# Altium footprint library ZPWL.PcbLib: 168 footprints (part 4 of 11)
Each footprint in its own frame and in the unit in brackets; x right, y up, seen from the top. Pads: shape width x height; smd on the part's side, far side on the other; paste and mask are expansions set on the pad; w line width, h text height; cw(c..) or ccw(c..) is an arc to the next point about the centre after c.
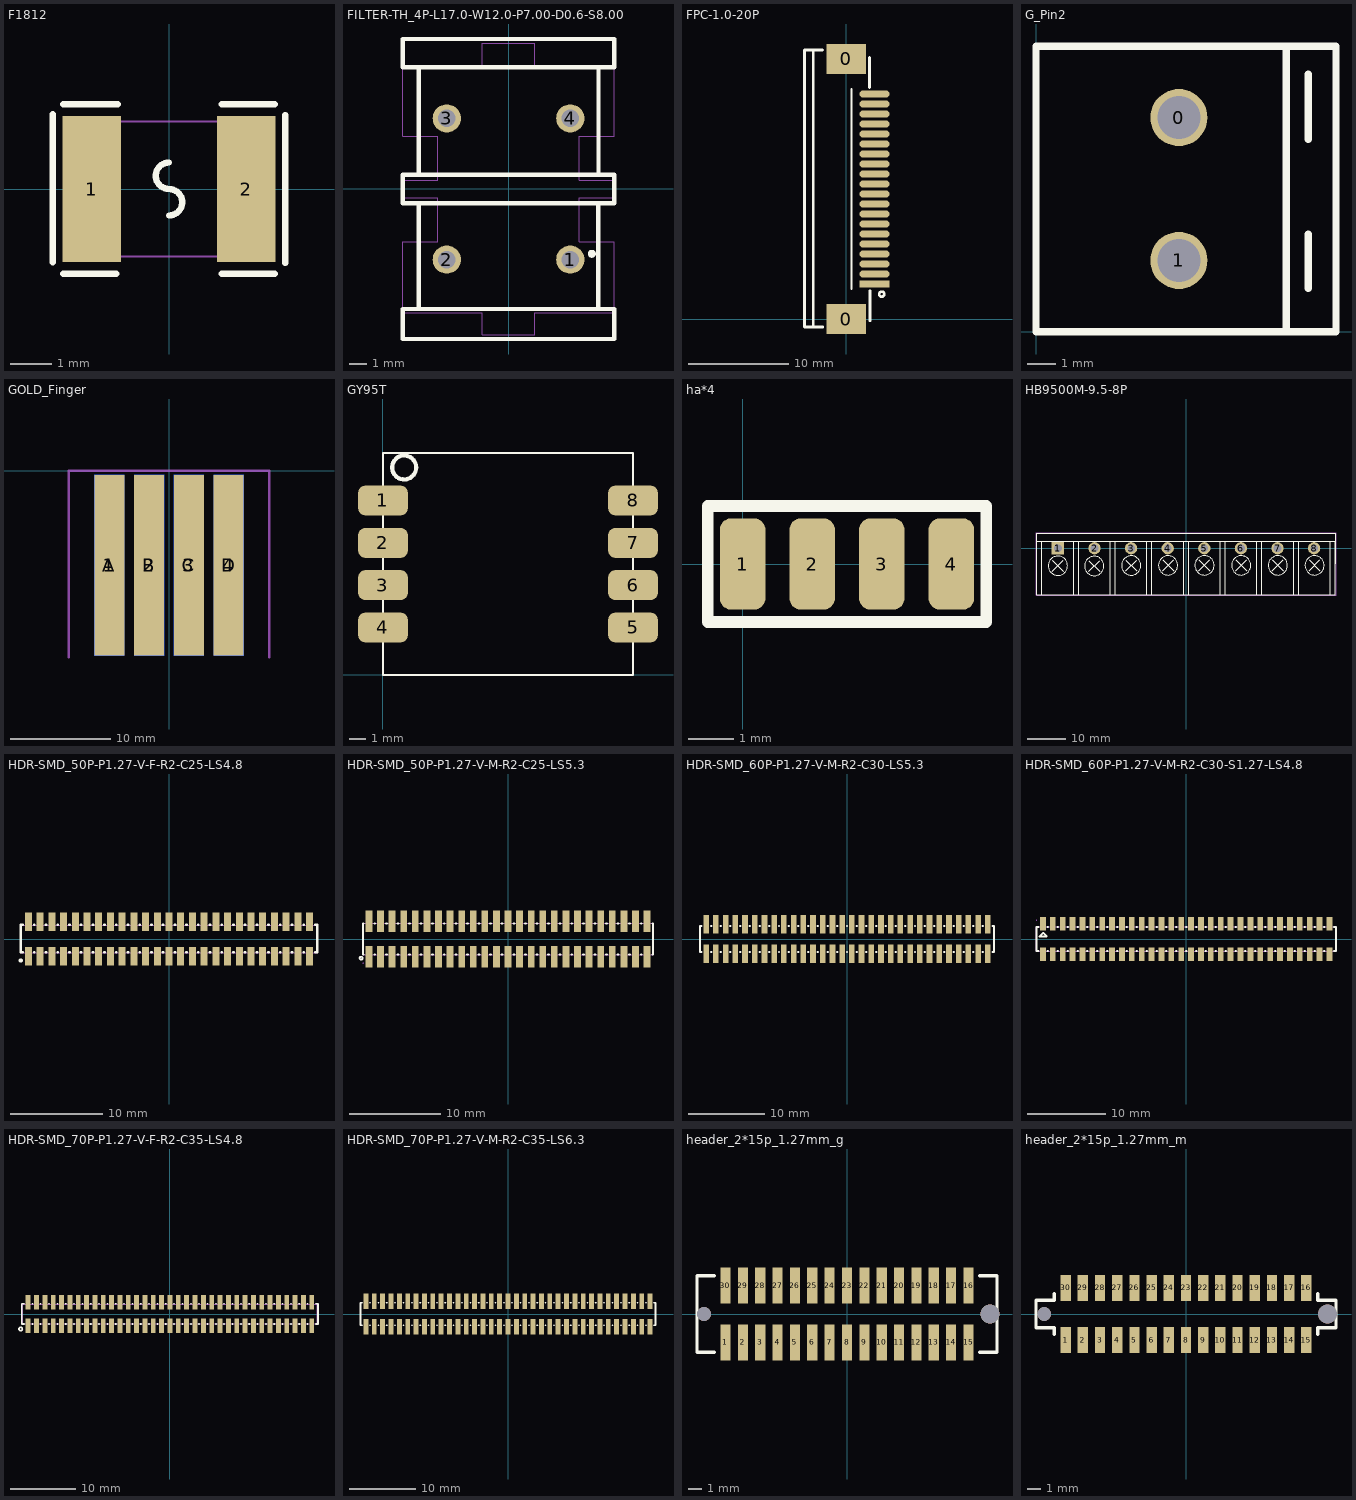
[diagram p3: the footprints below, top view; thin cyan lines are the x and y axes]

## F1812 [mm]
pads (2):
  rect 1.407x3.499 smd paste-100 mask+0.051: 1(-1.853,0) 2(1.853,0)
Top Overlay:
  lines w0.152: -2.794,-1.758 -2.794,1.798 ; -2.54,-2.032 -1.27,-2.032 ; -2.54,2.032 -1.235,2.032 ; 0,-0.635 ccw(c0,-0.318) 0,0 cw(c0,0.318) 0,0.635 ; 1.27,-2.032 2.54,-2.032 ; 1.27,2.032 2.54,2.032 ; 2.794,-1.778 2.794,1.778
Top Paste:
  region: -1.15,-1.65 -1.15,-0.695 -1.25,-0.595 -1.528,-0.595 -1.628,-0.495 -1.628,0.495 -1.528,0.595 -1.25,0.595 -1.15,0.695 -1.15,1.65 -1.25,1.75 -2.457,1.75 -2.557,1.65 -2.557,-1.65 -2.457,-1.75 -1.25,-1.75
  region: 1.15,-1.65 1.15,-0.695 1.25,-0.595 1.528,-0.595 1.628,-0.495 1.628,0.495 1.528,0.595 1.25,0.595 1.15,0.695 1.15,1.65 1.25,1.75 2.457,1.75 2.557,1.65 2.557,-1.65 2.457,-1.75 1.25,-1.75
Mechanical 6:
  lines w0.051: -2.275,-1.62 2.275,-1.62 2.275,1.62 -2.275,1.62 -2.275,-1.62
Mechanical 8:
  region: -2.215,-1.62 -2.215,-1.645 -2.25,-1.68 -2.3,-1.68 -2.335,-1.645 -2.335,-1.62 -2.335,-1.595 -2.3,-1.56 -2.25,-1.56 -2.215,-1.595 -2.215,-1.62
Mechanical 9:
  region: 2.275,-1.62 2.275,1.62 1.525,1.62 1.525,-1.62
  region: -2.275,-1.62 -2.275,1.62 -1.525,1.62 -1.525,-1.62
3D body "自恢复保险丝.STEP": height 1.14, standoff 0.1, extent -2.25,-1.524 2.25,1.676

## FILTER-TH_4P-L17.0-W12.0-P7.00-D0.6-S8.00 [mm]
pads (4):
  round 1.6 hole 1: 1(3.5,-4) 2(-3.5,-4) 3(-3.5,4) 4(3.5,4)
Top Overlay:
  circle w0.254: c4.72,-3.67 r0.1
  lines w0.254: -5.1,-6.8 -5.1,-0.8 ; -5.1,0.9 -5.1,6.9 ; 5.098,-6.798 5.098,-0.798 ; 5.098,0.901 5.098,6.901 ; 6,8.4 6,6.9 -6,6.9 -6,8.5 6,8.5 ; -6,-8.5 6,-8.5 6,-6.8 -6,-6.8 -6,-7.2 -6,-8.5 ; -6,-0.8 6,-0.8 6,0.8 -6,0.8 -6,-0.8
Mechanical 15:
  region: -5.94,-8.26 -5.94,-8.235 -5.975,-8.2 -6.025,-8.2 -6.06,-8.235 -6.06,-8.26 -6.06,-8.285 -6.025,-8.32 -5.975,-8.32 -5.94,-8.285 -5.94,-8.26
  region: -3.2,-4 -3.2,-3.941 -3.246,-3.831 -3.33,-3.746 -3.44,-3.7 -3.56,-3.7 -3.67,-3.746 -3.755,-3.831 -3.8,-3.941 -3.8,-4 -3.8,-4.06 -3.755,-4.171 -3.67,-4.255 -3.56,-4.301 -3.44,-4.301 -3.33,-4.255 -3.246,-4.171 -3.2,-4.06 -3.2,-4
  region: -3.2,4 -3.2,4.06 -3.246,4.17 -3.33,4.255 -3.44,4.301 -3.56,4.301 -3.67,4.255 -3.755,4.17 -3.8,4.06 -3.8,4 -3.8,3.941 -3.755,3.83 -3.67,3.746 -3.56,3.7 -3.44,3.7 -3.33,3.746 -3.246,3.83 -3.2,3.941 -3.2,4
  region: 3.8,4 3.8,4.06 3.755,4.17 3.67,4.255 3.56,4.301 3.44,4.301 3.33,4.255 3.246,4.17 3.2,4.06 3.2,4 3.2,3.941 3.246,3.83 3.33,3.746 3.44,3.7 3.56,3.7 3.67,3.746 3.755,3.83 3.8,3.941 3.8,4
  region: 3.8,-4 3.8,-3.941 3.755,-3.831 3.67,-3.746 3.56,-3.7 3.44,-3.7 3.33,-3.746 3.246,-3.831 3.2,-3.941 3.2,-4 3.2,-4.06 3.246,-4.171 3.33,-4.255 3.44,-4.301 3.56,-4.301 3.67,-4.255 3.755,-4.171 3.8,-4.06 3.8,-4
  lines w0.051: -6,-7 -1.5,-7 -1.5,-8.25 -1.5,-8.26 -1.49,-8.25 1.5,-8.25 1.5,-7 6,-7 6,-3 4,-3 4,-0.66 4,-0.5 6,-0.5 6,0.5 4,0.5 4,2.84 4,2.85 4,3 6,3 6,7 1.5,7 1.5,8.25 -1.5,8.25 -1.5,7 -6,7 -6,3 -4,3 -4,0.5 -6,0.5 -6,-0.5 -4,-0.5 -4,-3 -6,-3 -6,-7

## FPC-1.0-20P [mm]
pads (22):
  rect 4x3 smd: 0(0,0) 0(0,26)
  rect 3x0.7 smd: 1(2.825,3.5)
  oval 3x0.7 smd: 2(2.825,4.5) 3(2.825,5.5) 4(2.825,6.5) 5(2.825,7.5) 6(2.825,8.5) 7(2.825,9.5) 8(2.825,10.5) 9(2.825,11.5) 10(2.825,12.5) 11(2.825,13.5) 12(2.825,14.5) 13(2.825,15.5) 14(2.825,16.5) 15(2.825,17.5) 16(2.825,18.5) 17(2.825,19.5) 18(2.825,20.5) 19(2.825,21.5) 20(2.825,22.5)
Top Overlay:
  circle w0.254: c3.546,2.484 r0.254
  lines w0.2: 0.54,3 0.54,23
  lines w0.254: -3.3,-0.8 -3.3,26.85 ; -2.375,26.9 -4.175,26.9 -4.175,-0.8 -2.35,-0.8 ; 2.325,23.15 2.325,26.15 ; 2.375,-0.175 2.375,2.825
3D body "FPC-1.0-20P.step": height 2.8, standoff 0, extent -4.048,0.475 3.252,25.475

## G_Pin2 [mm]
height 18
pads (2):
  round 2 hole 1.5: 0(5,7.5) 1(5,2.5)
Top Overlay:
  lines w0.254: 8.763,0.127 8.763,10 ; 9.525,1.524 9.525,3.429 ; 9.525,6.731 9.525,9.017 ; 0,0 0,10 10.5,10 10.5,0 0,0

## GOLD_Finger [mm]
pads (8):
  rect 3x18 smd far side: 1(-5.94,-9.398) 2(-1.98,-9.398) 3(1.98,-9.398) 4(5.94,-9.398)
  rect 3x18 smd: A(-5.94,-9.398) B(-1.98,-9.398) C(1.98,-9.398) D(5.94,-9.398)
Mechanical 1:
  lines w0.254: -10,-18.542 -10,0 10,0 10,-18.542

## GY95T [mm] "三轴陀螺仪"
pads (8):
  rrect50% 3x1.8 smd: 1(0,10.465) 2(0,7.925) 3(0,5.385) 4(0,2.845) 5(15,2.845) 6(15,5.385) 7(15,7.925) 8(15,10.465)
Top Overlay:
  circle w0.254: c1.27,12.446 r0.718
  lines w0.127: 0,0 15,0 15,13.31 0,13.31 0,0

## ha*4 [mm] "STLINK_PAD"
pads (4):
  rrect50% 1x2 smd: 1(0,0) 2(1.524,0) 3(3.048,0) 4(4.572,0)
Top Overlay:
  lines w0.254: -0.762,-1.27 5.334,-1.27 5.334,1.27 -0.762,1.27 -0.762,-1.27

## HB9500M-9.5-8P [mm]
pads (8):
  rect 3.21x3.2 hole 2: 1(-33.25,0)
  round 3.2 hole 2: 2(-23.75,0) 3(-14.25,0) 4(-4.75,0) 5(4.75,0) 6(14.25,0) 7(23.75,0) 8(33.25,0)
Top Overlay:
  circle w0.254: c33.359,-4.437 r2.5
  circle w0.254: c23.834,-4.437 r2.5
  circle w0.254: c14.309,-4.437 r2.5
  circle w0.254: c4.784,-4.437 r2.5
  circle w0.254: c-33.25,-4.52 r2.5
  circle w0.254: c-23.82,-4.59 r2.5
  circle w0.254: c-14.22,-4.46 r2.5
  circle w0.254: c-4.66,-4.44 r2.5
  lines w0.254: -38.75,1.855 38.75,1.855 ; -37.45,-12.051 -37.45,1.749 ; -34.664,-5.934 -31.836,-3.106 ; -34.664,-3.106 -31.836,-5.934 ; -29.15,-12.051 -29.15,1.749 ; -27.85,-12.051 -27.85,1.749 ; -25.234,-6.004 -22.406,-3.176 ; -25.234,-3.176 -22.406,-6.004 ; -19.65,-12.051 -19.65,1.749 ; -18.35,-12.051 -18.35,1.749 ; -15.634,-5.874 -12.806,-3.046 ; -15.634,-3.046 -12.806,-5.874 ; -10.15,-12.051 -10.15,1.749 ; -8.85,-12.051 -8.85,1.749 ; -6.074,-5.854 -3.246,-3.026 ; -6.074,-3.026 -3.246,-5.854 ; -0.55,-12.051 -0.55,1.749 ; 0.655,-12.027 0.655,1.773 ; 3.37,-5.851 6.199,-3.022 ; 3.37,-3.022 6.199,-5.851 ; 8.855,-12.027 8.855,1.773 ; 8.88,-12.027 8.88,1.773 ; 10.154,-12.027 10.154,1.773 ; 10.18,-12.027 10.18,1.773 ; 12.895,-5.851 15.724,-3.022 ; 12.895,-3.022 15.724,-5.851 ; 18.38,-12.027 18.38,1.773 ; 18.405,-12.027 18.405,1.773 ; 19.679,-12.027 19.679,1.773 ; 19.705,-12.027 19.705,1.773 ; 22.42,-5.851 25.249,-3.022 ; 22.42,-3.022 25.249,-5.851 ; 27.905,-12.027 27.905,1.773 ; 27.93,-12.027 27.93,1.773 ; 29.204,-12.027 29.204,1.773 ; 29.23,-12.027 29.23,1.773 ; 31.945,-5.851 34.774,-3.022 ; 31.945,-3.022 34.774,-5.851 ; 37.45,-12.051 37.45,1.749 ; 37.475,-12.051 37.475,1.749 ; 38.75,3.949 -38.75,3.95 -38.75,-12.051 38.75,-12.051 38.807,3.914 ; 38.775,-12.051 38.775,1.749
Mechanical 15:
  drawing of 13 lines, arcs and shapes, not listed
3D body "HB9500M-9.5-8P.STEP": height 16.51, standoff -3.19, extent -38.664,-12.058 38.837,3.942

## HDR-SMD_50P-P1.27-V-F-R2-C25-LS4.8 [mm]
pads (50):
  rect 0.76x2.05 smd paste+0 mask+0.05: 1(-15.24,-1.875) 2(-15.24,1.875) 3(-13.97,-1.875) 4(-13.97,1.875) 5(-12.7,-1.875) 6(-12.7,1.875) 7(-11.43,-1.875) 8(-11.43,1.875) 9(-10.16,-1.875) 10(-10.16,1.875) 11(-8.89,-1.875) 12(-8.89,1.875) 13(-7.62,-1.875) 14(-7.62,1.875) 15(-6.35,-1.875) 16(-6.35,1.875) 17(-5.08,-1.875) 18(-5.08,1.875) 19(-3.81,-1.875) 20(-3.81,1.875) 21(-2.54,-1.875) 22(-2.54,1.875) 23(-1.27,-1.875) 24(-1.27,1.875) 25(0,-1.875) 26(0,1.875) 27(1.27,-1.875) 28(1.27,1.875) 29(2.54,-1.875) 30(2.54,1.875) 31(3.81,-1.875) 32(3.81,1.875) 33(5.08,-1.875) 34(5.08,1.875) 35(6.35,-1.875) 36(6.35,1.875) 37(7.62,-1.875) 38(7.62,1.875) 39(8.89,-1.875) 40(8.89,1.875) 41(10.16,-1.875) 42(10.16,1.875) 43(11.43,-1.875) 44(11.43,1.875) 45(12.7,-1.875) 46(12.7,1.875) 47(13.97,-1.875) 48(13.97,1.875) 49(15.24,-1.875) 50(15.24,1.875)
Top Overlay:
  circle w0.254: c-16.075,-2.335 r0.105
  lines w0.254: -16.075,-1.455 -16.075,1.545 ; -16.025,-1.455 -15.846,-1.455 ; -16.025,1.545 -15.846,1.545 ; -14.634,-1.455 -14.576,-1.455 ; -14.634,1.545 -14.576,1.545 ; -13.364,-1.455 -13.306,-1.455 ; -13.364,1.545 -13.306,1.545 ; -12.094,-1.455 -12.036,-1.455 ; -12.094,1.545 -12.036,1.545 ; -10.824,-1.455 -10.766,-1.455 ; -10.824,1.545 -10.766,1.545 ; -9.554,-1.455 -9.496,-1.455 ; -9.554,1.545 -9.496,1.545 ; -8.284,-1.455 -8.226,-1.455 ; -8.284,1.545 -8.226,1.545 ; -7.014,-1.455 -6.956,-1.455 ; -7.014,1.545 -6.956,1.545 ; -5.744,-1.455 -5.686,-1.455 ; -5.744,1.545 -5.686,1.545 ; -4.474,-1.455 -4.416,-1.455 ; -4.474,1.545 -4.416,1.545 ; -3.204,-1.455 -3.146,-1.455 ; -3.204,1.545 -3.146,1.545 ; -1.934,-1.455 -1.876,-1.455 ; -1.934,1.545 -1.876,1.545 ; -0.664,-1.455 -0.606,-1.455 ; -0.664,1.545 -0.606,1.545 ; 0.606,-1.455 0.664,-1.455 ; 0.606,1.545 0.664,1.545 ; 1.876,-1.455 1.934,-1.455 ; 1.876,1.545 1.934,1.545 ; 3.146,-1.455 3.204,-1.455 ; 3.146,1.545 3.204,1.545 ; 4.416,-1.455 4.474,-1.455 ; 4.416,1.545 4.474,1.545 ; 5.686,-1.455 5.744,-1.455 ; 5.686,1.545 5.744,1.545 ; 6.956,-1.455 7.014,-1.455 ; 6.956,1.545 7.014,1.545 ; 8.226,-1.455 8.284,-1.455 ; 8.226,1.545 8.284,1.545 ; 9.496,-1.455 9.554,-1.455 ; 9.496,1.545 9.554,1.545 ; 10.766,-1.455 10.824,-1.455 ; 10.766,1.545 10.824,1.545 ; 12.036,-1.455 12.094,-1.455 ; 12.036,1.545 12.094,1.545 ; 13.306,-1.455 13.364,-1.455 ; 13.306,1.545 13.364,1.545 ; 14.576,-1.455 14.634,-1.455 ; 14.576,1.545 14.634,1.545 ; 15.846,-1.455 15.904,-1.455 ; 15.846,1.545 15.904,1.545 ; 16.075,-1.455 16.075,1.545
Mechanical 15:
  drawing of 55 lines, arcs and shapes, not listed

## HDR-SMD_50P-P1.27-V-M-R2-C25-LS5.3 [mm]
pads (50):
  rect 0.74x2.4 smd paste+0 mask+0.05: 1(-15.24,-1.95) 2(-15.24,1.95) 3(-13.97,-1.95) 4(-13.97,1.95) 5(-12.7,-1.95) 6(-12.7,1.95) 7(-11.43,-1.95) 8(-11.43,1.95) 9(-10.16,-1.95) 10(-10.16,1.95) 11(-8.89,-1.95) 12(-8.89,1.95) 13(-7.62,-1.95) 14(-7.62,1.95) 15(-6.35,-1.95) 16(-6.35,1.95) 17(-5.08,-1.95) 18(-5.08,1.95) 19(-3.81,-1.95) 20(-3.81,1.95) 21(-2.54,-1.95) 22(-2.54,1.95) 23(-1.27,-1.95) 24(-1.27,1.95) 25(0,-1.95) 26(0,1.95) 27(1.27,-1.95) 28(1.27,1.95) 29(2.54,-1.95) 30(2.54,1.95) 31(3.81,-1.95) 32(3.81,1.95) 33(5.08,-1.95) 34(5.08,1.95) 35(6.35,-1.95) 36(6.35,1.95) 37(7.62,-1.95) 38(7.62,1.95) 39(8.89,-1.95) 40(8.89,1.95) 41(10.16,-1.95) 42(10.16,1.95) 43(11.43,-1.95) 44(11.43,1.95) 45(12.7,-1.95) 46(12.7,1.95) 47(13.97,-1.95) 48(13.97,1.95) 49(15.24,-1.95) 50(15.24,1.95)
Top Overlay:
  circle w0.2: c-16.1,-2.1 r0.16
  lines w0.2: -15.814,-1.7 -15.9,-1.7 -15.9,1.7 -15.814,1.7 ; -14.666,-1.7 -14.544,-1.7 ; -14.666,1.7 -14.544,1.7 ; -13.396,-1.7 -13.274,-1.7 ; -13.396,1.7 -13.274,1.7 ; -12.126,-1.7 -12.004,-1.7 ; -12.126,1.7 -12.004,1.7 ; -10.856,-1.7 -10.734,-1.7 ; -10.856,1.7 -10.734,1.7 ; -9.586,-1.7 -9.464,-1.7 ; -9.586,1.7 -9.464,1.7 ; -8.316,-1.7 -8.194,-1.7 ; -8.316,1.7 -8.194,1.7 ; -7.046,-1.7 -6.924,-1.7 ; -7.046,1.7 -6.924,1.7 ; -5.776,-1.7 -5.654,-1.7 ; -5.776,1.7 -5.654,1.7 ; -4.506,-1.7 -4.384,-1.7 ; -4.506,1.7 -4.384,1.7 ; -3.236,-1.7 -3.114,-1.7 ; -3.236,1.7 -3.114,1.7 ; -1.966,-1.7 -1.844,-1.7 ; -1.966,1.7 -1.844,1.7 ; -0.696,-1.7 -0.574,-1.7 ; -0.696,1.7 -0.574,1.7 ; 0.574,-1.7 0.696,-1.7 ; 0.574,1.7 0.696,1.7 ; 1.844,-1.7 1.966,-1.7 ; 1.844,1.7 1.966,1.7 ; 3.114,-1.7 3.236,-1.7 ; 3.114,1.7 3.236,1.7 ; 4.384,-1.7 4.506,-1.7 ; 4.384,1.7 4.506,1.7 ; 5.654,-1.7 5.776,-1.7 ; 5.654,1.7 5.776,1.7 ; 6.924,-1.7 7.046,-1.7 ; 6.924,1.7 7.046,1.7 ; 8.194,-1.7 8.316,-1.7 ; 8.194,1.7 8.316,1.7 ; 9.464,-1.7 9.586,-1.7 ; 9.464,1.7 9.586,1.7 ; 10.734,-1.7 10.856,-1.7 ; 10.734,1.7 10.856,1.7 ; 12.004,-1.7 12.126,-1.7 ; 12.004,1.7 12.126,1.7 ; 13.274,-1.7 13.396,-1.7 ; 13.274,1.7 13.396,1.7 ; 14.544,-1.7 14.666,-1.7 ; 14.544,1.7 14.666,1.7 ; 15.814,-1.7 15.9,-1.7 15.9,1.7 15.814,1.7
Mechanical 15:
  drawing of 55 lines, arcs and shapes, not listed

## HDR-SMD_60P-P1.27-V-M-R2-C30-LS5.3 [mm]
pads (60):
  rect 0.74x2.4 smd paste+0 mask+0.05: 1(-18.415,-1.95) 2(-18.415,1.95) 3(-17.145,-1.95) 4(-17.145,1.95) 5(-15.875,-1.95) 6(-15.875,1.95) 7(-14.605,-1.95) 8(-14.605,1.95) 9(-13.335,-1.95) 10(-13.335,1.95) 11(-12.065,-1.95) 12(-12.065,1.95) 13(-10.795,-1.95) 14(-10.795,1.95) 15(-9.525,-1.95) 16(-9.525,1.95) 17(-8.255,-1.95) 18(-8.255,1.95) 19(-6.985,-1.95) 20(-6.985,1.95) 21(-5.715,-1.95) 22(-5.715,1.95) 23(-4.445,-1.95) 24(-4.445,1.95) 25(-3.175,-1.95) 26(-3.175,1.95) 27(-1.905,-1.95) 28(-1.905,1.95) 29(-0.635,-1.95) 30(-0.635,1.95) 31(0.635,-1.95) 32(0.635,1.95) 33(1.905,-1.95) 34(1.905,1.95) 35(3.175,-1.95) 36(3.175,1.95) 37(4.445,-1.95) 38(4.445,1.95) 39(5.715,-1.95) 40(5.715,1.95) 41(6.985,-1.95) 42(6.985,1.95) 43(8.255,-1.95) 44(8.255,1.95) 45(9.525,-1.95) 46(9.525,1.95) 47(10.795,-1.95) 48(10.795,1.95) 49(12.065,-1.95) 50(12.065,1.95) 51(13.335,-1.95) 52(13.335,1.95) 53(14.605,-1.95) 54(14.605,1.95) 55(15.875,-1.95) 56(15.875,1.95) 57(17.145,-1.95) 58(17.145,1.95) 59(18.415,-1.95) 60(18.415,1.95)
Top Overlay:
  lines w0.254: -19.016,-1.7 -19.225,-1.7 -19.225,1.7 -19.016,1.7 ; -17.814,-1.7 -17.746,-1.7 ; -17.814,1.7 -17.746,1.7 ; -16.544,-1.7 -16.476,-1.7 ; -16.544,1.7 -16.476,1.7 ; -15.274,-1.7 -15.206,-1.7 ; -15.274,1.7 -15.206,1.7 ; -14.004,-1.7 -13.936,-1.7 ; -14.004,1.7 -13.936,1.7 ; -12.734,-1.7 -12.666,-1.7 ; -12.734,1.7 -12.666,1.7 ; -11.464,-1.7 -11.396,-1.7 ; -11.464,1.7 -11.396,1.7 ; -10.194,-1.7 -10.126,-1.7 ; -10.194,1.7 -10.126,1.7 ; -8.924,-1.7 -8.856,-1.7 ; -8.924,1.7 -8.856,1.7 ; -7.654,-1.7 -7.586,-1.7 ; -7.654,1.7 -7.586,1.7 ; -6.384,-1.7 -6.316,-1.7 ; -6.384,1.7 -6.316,1.7 ; -5.114,-1.7 -5.046,-1.7 ; -5.114,1.7 -5.046,1.7 ; -3.844,-1.7 -3.776,-1.7 ; -3.844,1.7 -3.776,1.7 ; -2.574,-1.7 -2.506,-1.7 ; -2.574,1.7 -2.506,1.7 ; -1.304,-1.7 -1.236,-1.7 ; -1.304,1.7 -1.236,1.7 ; -0.034,-1.7 0.034,-1.7 ; -0.034,1.7 0.034,1.7 ; 1.236,-1.7 1.304,-1.7 ; 1.236,1.7 1.304,1.7 ; 2.506,-1.7 2.574,-1.7 ; 2.506,1.7 2.574,1.7 ; 3.776,-1.7 3.844,-1.7 ; 3.776,1.7 3.844,1.7 ; 5.046,-1.7 5.114,-1.7 ; 5.046,1.7 5.114,1.7 ; 6.316,-1.7 6.384,-1.7 ; 6.316,1.7 6.384,1.7 ; 7.586,-1.7 7.654,-1.7 ; 7.586,1.7 7.654,1.7 ; 8.856,-1.7 8.924,-1.7 ; 8.856,1.7 8.924,1.7 ; 10.126,-1.7 10.194,-1.7 ; 10.126,1.7 10.194,1.7 ; 11.396,-1.7 11.464,-1.7 ; 11.396,1.7 11.464,1.7 ; 12.666,-1.7 12.734,-1.7 ; 12.666,1.7 12.734,1.7 ; 13.936,-1.7 14.004,-1.7 ; 13.936,1.7 14.004,1.7 ; 15.206,-1.7 15.274,-1.7 ; 15.206,1.7 15.274,1.7 ; 16.476,-1.7 16.544,-1.7 ; 16.476,1.7 16.544,1.7 ; 17.746,-1.7 17.814,-1.7 ; 17.746,1.7 17.814,1.7 ; 19.016,-1.7 19.225,-1.7 19.225,1.7 19.016,1.7

## HDR-SMD_60P-P1.27-V-M-R2-C30-S1.27-LS4.8 [mm]
pads (60):
  rect 0.74x1.7 smd paste+0 mask+0.05: 1(-18.415,1.95) 2(-18.415,-1.95) 3(-17.145,1.95) 4(-17.145,-1.95) 5(-15.875,1.95) 6(-15.875,-1.95) 7(-14.605,1.95) 8(-14.605,-1.95) 9(-13.335,1.95) 10(-13.335,-1.95) 11(-12.065,1.95) 12(-12.065,-1.95) 13(-10.795,1.95) 14(-10.795,-1.95) 15(-9.525,1.95) 16(-9.525,-1.95) 17(-8.255,1.95) 18(-8.255,-1.95) 19(-6.985,1.95) 20(-6.985,-1.95) 21(-5.715,1.95) 22(-5.715,-1.95) 23(-4.445,1.95) 24(-4.445,-1.95) 25(-3.175,1.95) 26(-3.175,-1.95) 27(-1.905,1.95) 28(-1.905,-1.95) 29(-0.635,1.95) 30(-0.635,-1.95) 31(0.635,1.95) 32(0.635,-1.95) 33(1.905,1.95) 34(1.905,-1.95) 35(3.175,1.95) 36(3.175,-1.95) 37(4.445,1.95) 38(4.445,-1.95) 39(5.715,1.95) 40(5.715,-1.95) 41(6.985,1.95) 42(6.985,-1.95) 43(8.255,1.95) 44(8.255,-1.95) 45(9.525,1.95) 46(9.525,-1.95) 47(10.795,1.95) 48(10.795,-1.95) 49(12.065,1.95) 50(12.065,-1.95) 51(13.335,1.95) 52(13.335,-1.95) 53(14.605,1.95) 54(14.605,-1.95) 55(15.875,1.95) 56(15.875,-1.95) 57(17.145,1.95) 58(17.145,-1.95) 59(18.415,1.95) 60(18.415,-1.95)
Top Overlay:
  lines w0.254: -19.016,-1.55 -19.25,-1.55 -19.25,1.55 -19.016,1.55 ; -17.814,-1.55 -17.746,-1.55 ; -17.814,1.55 -17.746,1.55 ; -16.544,-1.55 -16.476,-1.55 ; -16.544,1.55 -16.476,1.55 ; -15.274,-1.55 -15.206,-1.55 ; -15.274,1.55 -15.206,1.55 ; -14.004,-1.55 -13.936,-1.55 ; -14.004,1.55 -13.936,1.55 ; -12.734,-1.55 -12.666,-1.55 ; -12.734,1.55 -12.666,1.55 ; -11.464,-1.55 -11.396,-1.55 ; -11.464,1.55 -11.396,1.55 ; -10.194,-1.55 -10.126,-1.55 ; -10.194,1.55 -10.126,1.55 ; -8.924,-1.55 -8.856,-1.55 ; -8.924,1.55 -8.856,1.55 ; -7.654,-1.55 -7.586,-1.55 ; -7.654,1.55 -7.586,1.55 ; -6.384,-1.55 -6.316,-1.55 ; -6.384,1.55 -6.316,1.55 ; -5.114,-1.55 -5.046,-1.55 ; -5.114,1.55 -5.046,1.55 ; -3.844,-1.55 -3.776,-1.55 ; -3.844,1.55 -3.776,1.55 ; -2.574,-1.55 -2.506,-1.55 ; -2.574,1.55 -2.506,1.55 ; -1.304,-1.55 -1.236,-1.55 ; -1.304,1.55 -1.236,1.55 ; -0.034,-1.55 0.034,-1.55 ; -0.034,1.55 0.034,1.55 ; 1.236,-1.55 1.304,-1.55 ; 1.236,1.55 1.304,1.55 ; 2.506,-1.55 2.574,-1.55 ; 2.506,1.55 2.574,1.55 ; 3.776,-1.55 3.844,-1.55 ; 3.776,1.55 3.844,1.55 ; 5.046,-1.55 5.114,-1.55 ; 5.046,1.55 5.114,1.55 ; 6.316,-1.55 6.384,-1.55 ; 6.316,1.55 6.384,1.55 ; 7.586,-1.55 7.654,-1.55 ; 7.586,1.55 7.654,1.55 ; 8.856,-1.55 8.924,-1.55 ; 8.856,1.55 8.924,1.55 ; 10.126,-1.55 10.194,-1.55 ; 10.126,1.55 10.194,1.55 ; 11.396,-1.55 11.464,-1.55 ; 11.396,1.55 11.464,1.55 ; 12.666,-1.55 12.734,-1.55 ; 12.666,1.55 12.734,1.55 ; 13.936,-1.55 14.004,-1.55 ; 13.936,1.55 14.004,1.55 ; 15.206,-1.55 15.274,-1.55 ; 15.206,1.55 15.274,1.55 ; 16.476,-1.55 16.544,-1.55 ; 16.476,1.55 16.544,1.55 ; 17.746,-1.55 17.814,-1.55 ; 17.746,1.55 17.814,1.55 ; 19.016,-1.55 19.25,-1.55 19.25,1.55 ; 19.016,1.55 19.2,1.55 ; -18.4,0.8 -17.95,0.35 -18.85,0.35 -18.4,0.8 ; -18.4,0.8 -18.4,0.8
Mechanical 15:
  drawing of 65 lines, arcs and shapes, not listed

## HDR-SMD_70P-P1.27-V-F-R2-C35-LS4.8 [mm]
pads (70):
  rect 0.74x2.2 smd: 1(-21.59,-1.8) 2(-21.59,1.8) 3(-20.32,-1.8) 4(-20.32,1.8) 5(-19.05,-1.8) 6(-19.05,1.8) 7(-17.78,-1.8) 8(-17.78,1.8) 9(-16.51,-1.8) 10(-16.51,1.8) 11(-15.24,-1.8) 12(-15.24,1.8) 13(-13.97,-1.8) 14(-13.97,1.8) 15(-12.7,-1.8) 16(-12.7,1.8) 17(-11.43,-1.8) 18(-11.43,1.8) 19(-10.16,-1.8) 20(-10.16,1.8) 21(-8.89,-1.8) 22(-8.89,1.8) 23(-7.62,-1.8) 24(-7.62,1.8) 25(-6.35,-1.8) 26(-6.35,1.8) 27(-5.08,-1.8) 28(-5.08,1.8) 29(-3.81,-1.8) 30(-3.81,1.8)
  rect 0.74x2.2 smd paste+0 mask+0.05: 31(-2.54,-1.8) 32(-2.54,1.8) 33(-1.27,-1.8) 34(-1.27,1.8) 35(0,-1.8) 36(0,1.8) 37(1.27,-1.8) 38(1.27,1.8) 39(2.54,-1.8) 40(2.54,1.8) 41(3.81,-1.8) 42(3.81,1.8) 43(5.08,-1.8) 44(5.08,1.8) 45(6.35,-1.8) 46(6.35,1.8) 47(7.62,-1.8) 48(7.62,1.8) 49(8.89,-1.8) 50(8.89,1.8) 51(10.16,-1.8) 52(10.16,1.8) 53(11.43,-1.8) 54(11.43,1.8) 55(12.7,-1.8) 56(12.7,1.8) 57(13.97,-1.8) 58(13.97,1.8) 59(15.24,-1.8) 60(15.24,1.8) 61(16.51,-1.8) 62(16.51,1.8) 63(17.78,-1.8) 64(17.78,1.8) 65(19.05,-1.8) 66(19.05,1.8) 67(20.32,-1.8) 68(20.32,1.8) 69(21.59,-1.8) 70(21.59,1.8)
Top Overlay:
  circle w0.254: c-22.733,-2.286 r0.254
  lines w0.254: -22.55,-1.524 -22.225,-1.524 -22.191,-1.524 ; -22.55,-1.5 -22.55,1.5 ; -22.55,1.55 -22.2,1.55 -22.191,1.55 ; -20.989,-1.524 -20.921,-1.524 ; -20.989,1.55 -20.921,1.55 ; -19.719,-1.524 -19.651,-1.524 ; -19.719,1.55 -19.651,1.55 ; -18.449,-1.524 -18.381,-1.524 ; -18.449,1.55 -18.381,1.55 ; -17.179,-1.524 -17.111,-1.524 ; -17.179,1.55 -17.111,1.55 ; -15.909,-1.524 -15.841,-1.524 ; -15.909,1.55 -15.841,1.55 ; -14.639,-1.524 -14.571,-1.524 ; -14.639,1.55 -14.571,1.55 ; -13.369,-1.524 -13.301,-1.524 ; -13.369,1.55 -13.301,1.55 ; -12.099,-1.524 -12.031,-1.524 ; -12.099,1.55 -12.031,1.55 ; -10.829,-1.524 -10.761,-1.524 ; -10.829,1.55 -10.761,1.55 ; -9.559,-1.524 -9.491,-1.524 ; -9.559,1.55 -9.491,1.55 ; -8.289,-1.524 -8.221,-1.524 ; -8.289,1.55 -8.221,1.55 ; -7.019,-1.524 -6.951,-1.524 ; -7.019,1.55 -6.951,1.55 ; -5.749,-1.524 -5.681,-1.524 ; -5.749,1.55 -5.681,1.55 ; -4.479,-1.524 -4.411,-1.524 ; -4.479,1.55 -4.411,1.55 ; -3.209,-1.524 -3.141,-1.524 ; -3.209,1.55 -3.141,1.55 ; -1.939,-1.524 -1.871,-1.524 ; -1.939,1.55 -1.871,1.55 ; -0.669,-1.524 -0.601,-1.524 ; -0.669,1.55 -0.601,1.55 ; 0.601,-1.524 0.669,-1.524 ; 0.601,1.55 0.669,1.55 ; 1.871,-1.524 1.939,-1.524 ; 1.871,1.55 1.939,1.55 ; 3.141,-1.524 3.209,-1.524 ; 3.141,1.55 3.209,1.55 ; 4.411,-1.524 4.479,-1.524 ; 4.411,1.55 4.479,1.55 ; 5.681,-1.524 5.749,-1.524 ; 5.681,1.55 5.749,1.55 ; 6.951,-1.524 7.019,-1.524 ; 6.951,1.55 7.019,1.55 ; 8.221,-1.524 8.289,-1.524 ; 8.221,1.55 8.289,1.55 ; 9.491,-1.524 9.559,-1.524 ; 9.491,1.55 9.559,1.55 ; 10.761,-1.524 10.829,-1.524 ; 10.761,1.55 10.829,1.55 ; 12.031,-1.524 12.099,-1.524 ; 12.031,1.55 12.099,1.55 ; 13.301,-1.524 13.369,-1.524 ; 13.301,1.55 13.369,1.55 ; 14.571,-1.524 14.639,-1.524 ; 14.571,1.55 14.639,1.55 ; 15.841,-1.524 15.909,-1.524 ; 15.841,1.55 15.909,1.55 ; 17.111,-1.524 17.179,-1.524 ; 17.111,1.55 17.179,1.55 ; 18.381,1.55 18.449,1.55 ; 18.415,-1.524 18.449,-1.524 ; 19.651,-1.524 19.719,-1.524 ; 19.651,1.55 19.719,1.55 ; 20.921,-1.524 20.989,-1.524 ; 20.921,1.55 20.989,1.55 ; 22.191,-1.524 22.201,-1.524 22.55,-1.524 22.55,1.55 22.201,1.55 22.191,1.55
Mechanical 15:
  drawing of 75 lines, arcs and shapes, not listed

## HDR-SMD_70P-P1.27-V-M-R2-C35-LS6.3 [mm]
pads (70):
  rect 0.74x2.4 smd paste+0 mask+0.05: 1(-21.59,-1.95) 2(-21.59,1.95) 3(-20.32,-1.95) 4(-20.32,1.95) 5(-19.05,-1.95) 6(-19.05,1.95) 7(-17.78,-1.95) 8(-17.78,1.95) 9(-16.51,-1.95) 10(-16.51,1.95) 11(-15.24,-1.95) 12(-15.24,1.95) 13(-13.97,-1.95) 14(-13.97,1.95) 15(-12.7,-1.95) 16(-12.7,1.95) 17(-11.43,-1.95) 18(-11.43,1.95) 19(-10.16,-1.95) 20(-10.16,1.95) 21(-8.89,-1.95) 22(-8.89,1.95) 23(-7.62,-1.95) 24(-7.62,1.95) 25(-6.35,-1.95) 26(-6.35,1.95) 27(-5.08,-1.95) 28(-5.08,1.95) 29(-3.81,-1.95) 30(-3.81,1.95) 31(-2.54,-1.95) 32(-2.54,1.95) 33(-1.27,-1.95) 34(-1.27,1.95) 35(0,-1.95) 36(0,1.95) 37(1.27,-1.95) 38(1.27,1.95) 39(2.54,-1.95) 40(2.54,1.95) 41(3.81,-1.95) 42(3.81,1.95) 43(5.08,-1.95) 44(5.08,1.95) 45(6.35,-1.95) 46(6.35,1.95) 47(7.62,-1.95) 48(7.62,1.95) 49(8.89,-1.95) 50(8.89,1.95) 51(10.16,-1.95) 52(10.16,1.95) 53(11.43,-1.95) 54(11.43,1.95) 55(12.7,-1.95) 56(12.7,1.95) 57(13.97,-1.95) 58(13.97,1.95) 59(15.24,-1.95) 60(15.24,1.95) 61(16.51,-1.95) 62(16.51,1.95) 63(17.78,-1.95) 64(17.78,1.95) 65(19.05,-1.95) 66(19.05,1.95) 67(20.32,-1.95) 68(20.32,1.95) 69(21.59,-1.95) 70(21.59,1.95)
Top Overlay:
  lines w0.254: -22.191,-1.7 -22.4,-1.7 -22.4,1.7 -22.191,1.7 ; -20.989,-1.7 -20.921,-1.7 ; -20.989,1.7 -20.921,1.7 ; -19.719,-1.7 -19.651,-1.7 ; -19.719,1.7 -19.651,1.7 ; -18.449,-1.7 -18.381,-1.7 ; -18.449,1.7 -18.381,1.7 ; -17.179,-1.7 -17.111,-1.7 ; -17.179,1.7 -17.111,1.7 ; -15.909,-1.7 -15.841,-1.7 ; -15.909,1.7 -15.841,1.7 ; -14.639,-1.7 -14.571,-1.7 ; -14.639,1.7 -14.571,1.7 ; -13.369,-1.7 -13.301,-1.7 ; -13.369,1.7 -13.301,1.7 ; -12.099,-1.7 -12.031,-1.7 ; -12.099,1.7 -12.031,1.7 ; -10.829,-1.7 -10.761,-1.7 ; -10.829,1.7 -10.761,1.7 ; -9.559,-1.7 -9.491,-1.7 ; -9.559,1.7 -9.491,1.7 ; -8.289,-1.7 -8.221,-1.7 ; -8.289,1.7 -8.221,1.7 ; -7.019,-1.7 -6.951,-1.7 ; -7.019,1.7 -6.951,1.7 ; -5.749,-1.7 -5.681,-1.7 ; -5.749,1.7 -5.681,1.7 ; -4.479,-1.7 -4.411,-1.7 ; -4.479,1.7 -4.411,1.7 ; -3.209,-1.7 -3.141,-1.7 ; -3.209,1.7 -3.141,1.7 ; -1.939,-1.7 -1.871,-1.7 ; -1.939,1.7 -1.871,1.7 ; -0.669,-1.7 -0.601,-1.7 ; -0.669,1.7 -0.601,1.7 ; 0.601,-1.7 0.669,-1.7 ; 0.601,1.7 0.669,1.7 ; 1.871,-1.7 1.939,-1.7 ; 1.871,1.7 1.939,1.7 ; 3.141,-1.7 3.209,-1.7 ; 3.141,1.7 3.209,1.7 ; 4.411,-1.7 4.479,-1.7 ; 4.411,1.7 4.479,1.7 ; 5.681,-1.7 5.749,-1.7 ; 5.681,1.7 5.749,1.7 ; 6.951,-1.7 7.019,-1.7 ; 6.951,1.7 7.019,1.7 ; 8.221,-1.7 8.289,-1.7 ; 8.221,1.7 8.289,1.7 ; 9.491,-1.7 9.559,-1.7 ; 9.491,1.7 9.559,1.7 ; 10.761,-1.7 10.829,-1.7 ; 10.761,1.7 10.829,1.7 ; 12.031,-1.7 12.099,-1.7 ; 12.031,1.7 12.099,1.7 ; 13.301,-1.7 13.369,-1.7 ; 13.301,1.7 13.369,1.7 ; 14.571,-1.7 14.639,-1.7 ; 14.571,1.7 14.639,1.7 ; 15.841,-1.7 15.909,-1.7 ; 15.841,1.7 15.909,1.7 ; 17.111,-1.7 17.179,-1.7 ; 17.111,1.7 17.179,1.7 ; 18.381,-1.7 18.449,-1.7 ; 18.381,1.7 18.449,1.7 ; 19.651,-1.7 19.719,-1.7 ; 19.651,1.7 19.719,1.7 ; 20.921,-1.7 20.989,-1.7 ; 20.921,1.7 20.989,1.7 ; 22.191,-1.7 22.4,-1.7 22.4,1.7 22.191,1.7

## header_2*15p_1.27mm_g [mm] "公座"
pads (30):
  rect 0.74x2.65 smd: 1(-8.89,-2.075) 2(-7.62,-2.075) 3(-6.35,-2.075) 4(-5.08,-2.075) 5(-3.81,-2.075) 6(-2.54,-2.075) 7(-1.27,-2.075) 8(0,-2.075) 9(1.27,-2.075) 10(2.54,-2.075) 11(3.81,-2.075) 12(5.08,-2.075) 13(6.35,-2.075) 14(7.62,-2.075) 15(8.89,-2.075) 16(8.89,2.075) 17(7.62,2.075) 18(6.35,2.075) 19(5.08,2.075) 20(3.81,2.075) 21(2.54,2.075) 22(1.27,2.075) 23(0,2.075) 24(-1.27,2.075) 25(-2.54,2.075) 26(-3.81,2.075) 27(-5.08,2.075) 28(-6.35,2.075) 29(-7.62,2.075) 30(-8.89,2.075)
via -10.465,0 diameter 1 hole 1
via 10.465,0 diameter 1.4 hole 1.4
Top Overlay:
  lines w0.254: -9.705,-2.8 -10.975,-2.8 -10.975,2.8 -9.705,2.8 ; 9.705,-2.8 10.975,-2.8 10.975,2.8 9.705,2.8

## header_2*15p_1.27mm_m [mm] "母头"
pads (30):
  rect 0.76x1.95 smd: 1(-8.89,-1.925) 2(-7.62,-1.925) 3(-6.35,-1.925) 4(-5.08,-1.925) 5(-3.81,-1.925) 6(-2.54,-1.925) 7(-1.27,-1.925) 8(0,-1.925) 9(1.27,-1.925) 10(2.54,-1.925) 11(3.81,-1.925) 12(5.08,-1.925) 13(6.35,-1.925) 14(7.62,-1.925) 15(8.89,-1.925) 16(8.89,1.925) 17(7.62,1.925) 18(6.35,1.925) 19(5.08,1.925) 20(3.81,1.925) 21(2.54,1.925) 22(1.27,1.925) 23(0,1.925) 24(-1.27,1.925) 25(-2.54,1.925) 26(-3.81,1.925) 27(-5.08,1.925) 28(-6.35,1.925) 29(-7.62,1.925) 30(-8.89,1.925)
via 10.465,0 diameter 1.4 hole 1.4
via -10.465,0 diameter 1 hole 1
Top Overlay:
  lines w0.254: -9.725,-1.5 -9.725,-1 -11.085,-1 -11.085,1 -9.725,1 -9.725,1.5 ; 9.725,-1.5 9.725,-1 11.085,-1 11.085,1 9.725,1 9.725,1.5